# Altium footprint library SOT89-5.PcbLib: 1 footprints
Each footprint in its own frame and in the unit in brackets; x right, y up, seen from the top. Pads: shape width x height; smd on the part's side, far side on the other; paste and mask are expansions set on the pad; w line width, h text height; cw(c..) or ccw(c..) is an arc to the next point about the centre after c.
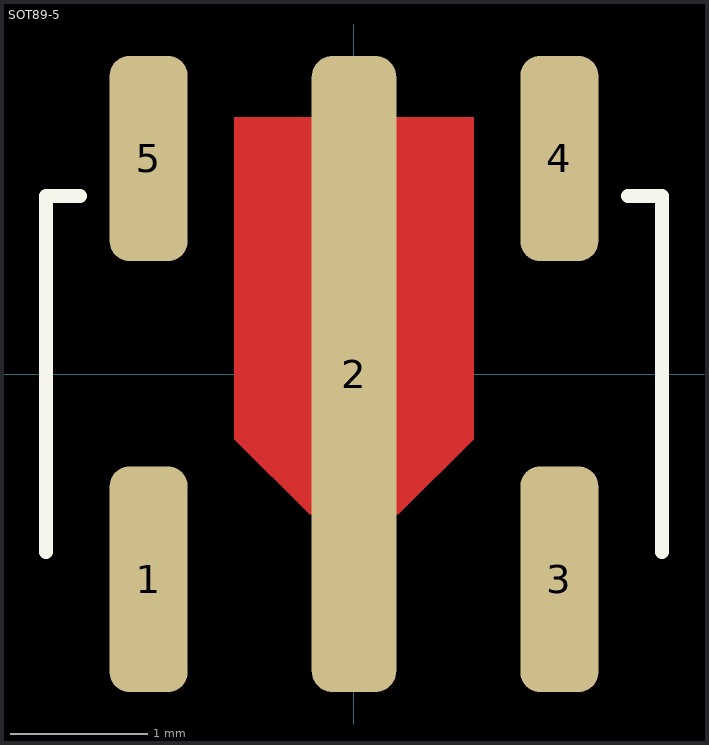
[diagram p0: the footprint, top view; thin cyan lines are the x and y axes]

## SOT89-5 [mm] "SC-62"
pads (5):
  rrect50% 0.57x1.65 smd: 1(-1.5,-1.5) 3(1.5,-1.5)
  rrect50% 0.62x4.65 smd: 2(0,0)
  rrect50% 0.57x1.5 smd: 4(1.5,1.575) 5(-1.5,1.575)
Top Layer:
  region: -0.325,-1.025 -0.875,-0.475 -0.875,1.875 0.875,1.875 0.875,-0.475 0.325,-1.025
Top Overlay:
  lines w0.1: -2.25,-1.3 -2.25,1.3 -2,1.3 ; 2,1.3 2.25,1.3 2.25,-1.3
3D body "SOT89-5.STEP": height 1.5, standoff 0, extent -2.25,-2.175 2.25,2.175